# Altium schematic symbol library RFD900X.SchLib: 1 symbol
Pins are listed as number, name and electrical type; pins without a type are passive.

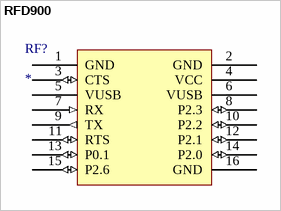
[diagram p0: symbol RFD900]

## RFD900
designator RF?
footprint RFD900
pins: 1 GND (power), 2 GND (power), 3 CTS (io), 4 VCC (power), 5 VUSB (power), 6 VUSB (power), 7 RX (in), 8 P2.3 (io), 9 TX (out), 10 P2.2 (io), 11 RTS (io), 12 P2.1 (io), 13 P0.1 (io), 14 P2.0 (io), 15 P2.6 (io), 16 GND (power)